# Altium schematic symbol library SCH - SWITCHES - CAS-120B1.SchLib: 1 symbol
Pins are listed as number, name and electrical type; pins without a type are passive.

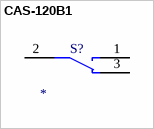
[diagram p0: symbol CAS-120B1]

## CAS-120B1
designator S?
pins: 1 NO1, 2 COM1, 3 NC1